# EAGLE library part HIN232IBZ (library Intersil_By_element14_Batch_1)
Dual RS-232 Transmitter/Receiver
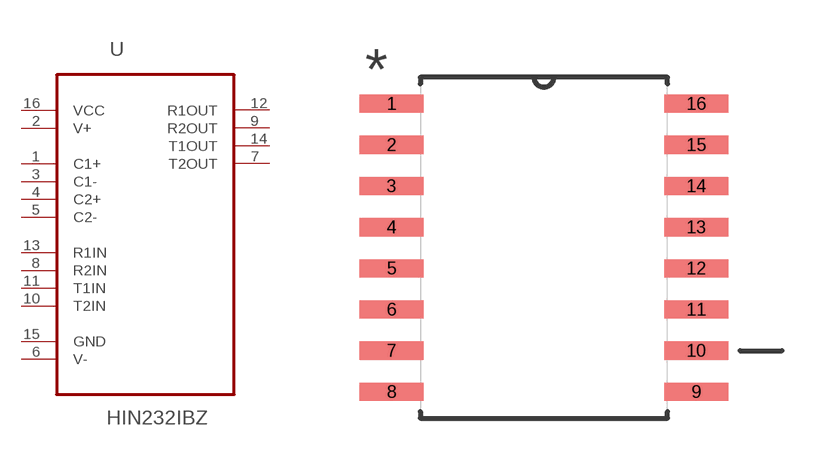
[diagram p148: symbol with the pads of SOIC127P1032X265-16N; footprint SOIC127P1032X265-16N]

Designator prefix U

## HIN232IBZ (MPN: HIN232IBZ; OC_FARNELL: 9664165; OC_NEWARK: 11J8730; PACKAGE: SOIC-16; SUPPLIER: INTERSIL)  [SOIC127P1032X265-16N]
1  C1+  in
2  V+  in
3  C1-  in
4  C2+  in
5  C2-  in
6  V-  in
7  T2OUT  out
8  R2IN  in
9  R2OUT  out
10  T2IN  in
11  T1IN  in
12  R1OUT  out
13  R1IN  in
14  T1OUT  out
15  GND  pas
16  VCC  in

## Footprint SOIC127P1032X265-16N (pad centres in mm)
smd 1.981 x 0.559: 1 -4.699,4.445; 2 -4.699,3.175; 3 -4.699,1.905; 4 -4.699,0.635; 5 -4.699,-0.635; 6 -4.699,-1.905; 7 -4.699,-3.175; 8 -4.699,-4.445; 9 4.699,-4.445; 10 4.699,-3.175; 11 4.699,-1.905; 12 4.699,-0.635; 13 4.699,0.635; 14 4.699,1.905; 15 4.699,3.175; 16 4.699,4.445